# Altium footprint library Oscillators.PcbLib: 2 footprints
Each footprint in its own frame and in the unit in brackets; x right, y up, seen from the top. Pads: shape width x height; smd on the part's side, far side on the other; paste and mask are expansions set on the pad; w line width, h text height; cw(c..) or ccw(c..) is an arc to the next point about the centre after c.
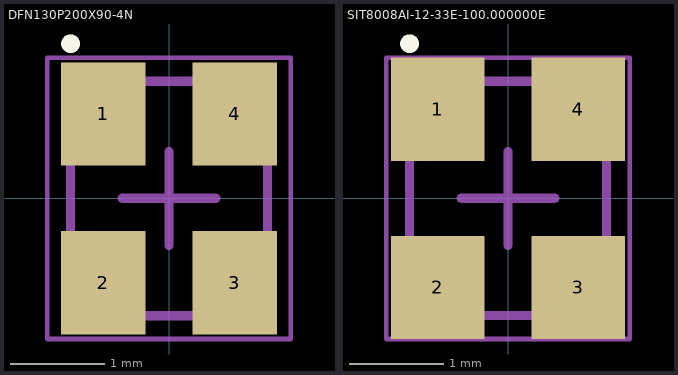
[diagram p0: the footprints below, top view; thin cyan lines are the x and y axes]

## DFN130P200X90-4N [mm] "DFN, 4-Leads, Body 2.45x2.00mm, Pitch 1.30mm, IPC Medium Density"
height 0.9
pads (4):
  rect 0.9x1.1 smd mask+0.051: 1(-0.7,0.9) 2(-0.7,-0.9) 3(0.7,-0.9) 4(0.7,0.9)
Top Overlay:
  circle w0.1: c-1.05,1.65 r0.05
Assembly Top:
  lines w0.1: -1.05,-1.25 1.05,-1.25 1.05,1.25 -1.05,1.25 -1.05,-1.25
Courtyard Top:
  lines w0.05: -1.3,-1.5 1.3,-1.5 1.3,1.5 -1.3,1.5 -1.3,-1.5
  lines w0.1: -0.5,0 0.5,0 ; 0,-0.5 0,0.5
3D body "ECS-120-8-36-CKM-TR--3DModel-STEP-15126 (1).STEP": height 0.6, standoff 0, extent -1,-1.25 1,1.25

## SIT8008AI-12-33E-100.000000E [mm]
height 0.9
pads (4):
  rect 1x1.1 smd mask+0.051: 1(-0.75,0.95) 2(-0.75,-0.95) 3(0.75,-0.95) 4(0.75,0.95)
Top Overlay:
  circle w0.1: c-1.05,1.65 r0.05
Assembly Top:
  lines w0.1: -1.05,-1.25 1.05,-1.25 1.05,1.25 -1.05,1.25 -1.05,-1.25
Courtyard Top:
  lines w0.05: -1.3,-1.5 1.3,-1.5 1.3,1.5 -1.3,1.5 -1.3,-1.5
  lines w0.1: -0.5,0 0.5,0 ; 0,-0.5 0,0.5
3D body "ECS-120-8-36-CKM-TR--3DModel-STEP-15126 (1).STEP": height 0.6, standoff 0, extent -1,-1.25 1,1.25